# EAGLE library part TLE8366EV (library kiosk)
TLE8366-series Description: The TLE8366 is a PWM step-down DC/DC converter with an integrated 1.8 A power switch, packaged in a small PG-DSO-8 with exposed pad. There are three versions available, two fixed voltage with 5.0 V (TLE8366EV50) or 3.3 V (TLE8366EV33) and a variable voltage variant named TLE8366EV with a reference feedback voltage of only 600 mV. The wide input voltage range from 4.75 to 45 V makes the TLE8366 suitable for a wide variety of applications. The device is designed to be used under harsh automotive environment. The switching frequency of nominal 370 kHz allows the use of small and cost-effective inductors and capacitors, resulting in a low, predictable output ripple and in minimized consumption of board space. If desired the device could be synchronized to an external frequency source between 200 and 530 kHz. The TLE8366 includes safety features such as a cycle-by-cycle current limitation, over-temperature shutdown and input under voltage lockout. The enable function, in shutdown mode with less than 2 μA current consumption, enables easy power management in battery-powered systems. The voltage regulation loop provides an excellent line and load regulation. The stability of the loop could be adjusted by using an external compensation network. This compensation network combined with voltage mode regulation and a feed-forward control path guarantees a highly effective line transient rejection. During start-up the integrated soft-start limits the inrush current peak and prevents from a voltage overshoot. Datasheet: TLE8366 <https://www.infineon.com/cms/de/product/power/dc-dc-converter/dc-dc-converter-automotive/tle8366ev/>
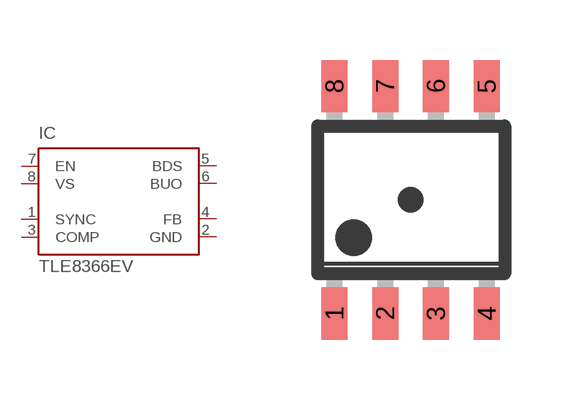
[diagram p0: symbol with the pads of PG-DSO-8; footprint PG-DSO-8]

Designator prefix IC

## TLE8366EV (MF: Infineon; OC_FARNELL: 2780852; OC_NEWARK: 34AC2026)  [PG-DSO-8]
1  SYNC  in
2  GND  pwr
3  COMP  in
4  FB  in
5  BDS  in
6  BUO  out
7  EN  in
8  VS  pwr

## Footprint PG-DSO-8 (pad centres in mm)
PG-DSO8 Source: TLE5009_FDS_Rev.1.1.pdf
smd 0.65 x 1.31: 1 -1.905,-2.845; 2 -0.635,-2.845; 3 0.635,-2.845; 4 1.905,-2.845; 5 1.905,2.845; 6 0.635,2.845; 7 -0.635,2.845; 8 -1.905,2.845